# Altium footprint library QuickRotor_V1.PcbLib: 20 footprints (part 2 of 2)
Each footprint in its own frame and in the unit in brackets; x right, y up, seen from the top. Pads: shape width x height; smd on the part's side, far side on the other; paste and mask are expansions set on the pad; w line width, h text height; cw(c..) or ccw(c..) is an arc to the next point about the centre after c.
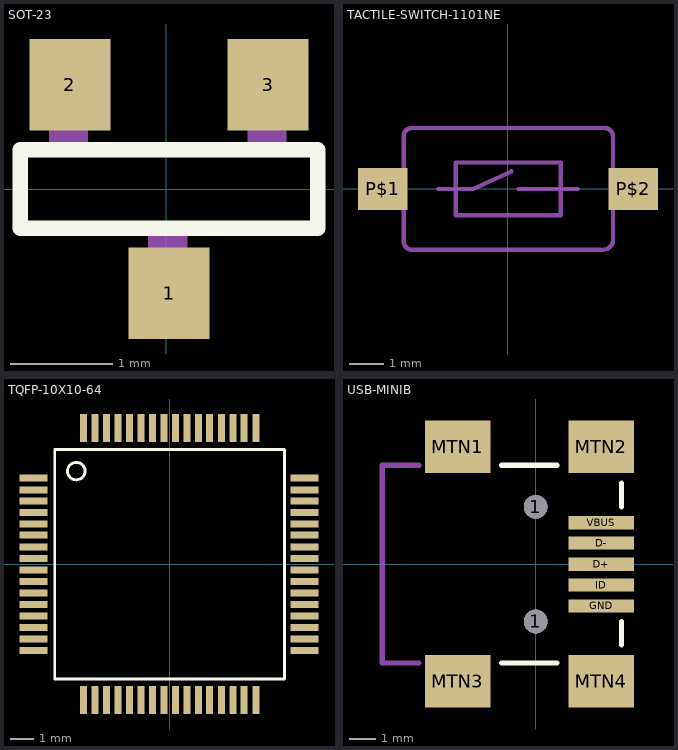
[diagram p1: the footprints below, top view; thin cyan lines are the x and y axes]

## SOT-23 [mil] "SOT-23"
pads (3):
  rect 31x35 smd: 1(1,-40) 2(-37,40) 3(39,40)
Top Overlay:
  lines w6: -56,-15 -56,15 58,15 58,-15 -56,-15
Mechanical 16:
  rectangle: -7,-37 8,-17
  rectangle: -45,17 -30,37
  rectangle: 31,17 46,37

## TACTILE-SWITCH-1101NE [mil] "TACTILE-SWITCH-1101NE"
pads (2):
  rect 56x48 smd: P$1(-141.73,0) P$2(142,0)
Mechanical 16:
  lines w5: -78.74,0 -39.37,0 4,20 ; 12,0 79,0 ; -118.11,-59.06 ccw(c-108.27,-59.06) -108.27,-68.9 105,-68.9 ccw(c107.08,-56.98) 119,-59.06 119,-43.31 119,44 119,60 ccw(c109.5,59.5) 109,69 -108.27,69 ccw(c-108.69,59.58) -118.11,60 -118.11,44 -118.11,-43.31 -118.11,-59.06 ; -59.06,-29.53 60,-29.53 60,30 -59.06,30 -59.06,-29.53

## TQFP-10X10-64 [mil] "TQFP-10X10-64"
pads (64):
  rect 48x12 smd: P$1(-233.72,148) P$2(-233.72,128) P$3(-233.72,109) P$4(-233.72,89) P$5(-233.72,69) P$6(-233.72,50) P$7(-233.72,30) P$8(-233.72,10) P$9(-233.72,-9.84) P$10(-233.72,-29.53) P$11(-233.72,-49.21) P$12(-233.72,-68.9) P$13(-233.72,-88.58) P$14(-233.72,-108.27) P$15(-233.72,-127.95) P$16(-233.72,-147.64) P$33(232,-147.64) P$34(232,-127.95) P$35(232,-108.27) P$36(232,-88.58) P$37(232,-68.9) P$38(232,-49.21) P$39(232,-29.53) P$40(232,-9.84) P$41(232,10) P$42(232,30) P$43(232,50) P$44(232,69) P$45(232,89) P$46(232,109) P$47(232,128) P$48(232,148)
  rect 12x48 smd: P$17(-147.64,-232.72) P$18(-127.95,-232.72) P$19(-108.27,-232.72) P$20(-88.58,-232.72) P$21(-68.9,-232.72) P$22(-49.21,-232.72) P$23(-29.53,-232.72) P$24(-9.84,-232.72) P$25(10,-232.72) P$26(30,-232.72) P$27(50,-232.72) P$28(69,-232.72) P$29(89,-232.72) P$30(109,-232.72) P$31(128,-232.72) P$32(148,-232.72) P$49(148,234) P$50(128,234) P$51(109,234) P$52(89,234) P$53(69,234) P$54(50,234) P$55(30,234) P$56(10,234) P$57(-9.84,234) P$58(-29.53,234) P$59(-49.21,234) P$60(-68.9,234) P$61(-88.58,234) P$62(-108.27,234) P$63(-127.95,234) P$64(-147.64,234)
Top Overlay:
  circle w5: c-160,160 r15
  lines w5: -196.85,-196.85 197,-196.85 197,197 -196.85,197 -196.85,-196.85

## USB-MINIB [mil] "USB-MINIB"
pads (11):
  round 36 hole 36: 1(0,-86.61) 1(0,87)
  rect 99x20 smd: D+(99,0) D-(99,32) GND(99,-62.99) ID(99,-31.5) VBUS(99,63)
  rect 99x79 smd: MTN1(-118.11,178) MTN2(99,178) MTN3(-118.11,-177.17) MTN4(99,-177.17)
Top Overlay:
  lines w8: -51.18,-149.61 32,-149.61 ; -51.18,150 32,150 ; 130,-122.05 130,-86.61 ; 130,87 130,123
Mechanical 16:
  lines w8: -177.17,-149.61 -232.28,-149.61 -232.28,150 -177.17,150